# Altium schematic symbol library Power.SchLib: 8 symbols
Pins are listed as number, name and electrical type; pins without a type are passive.

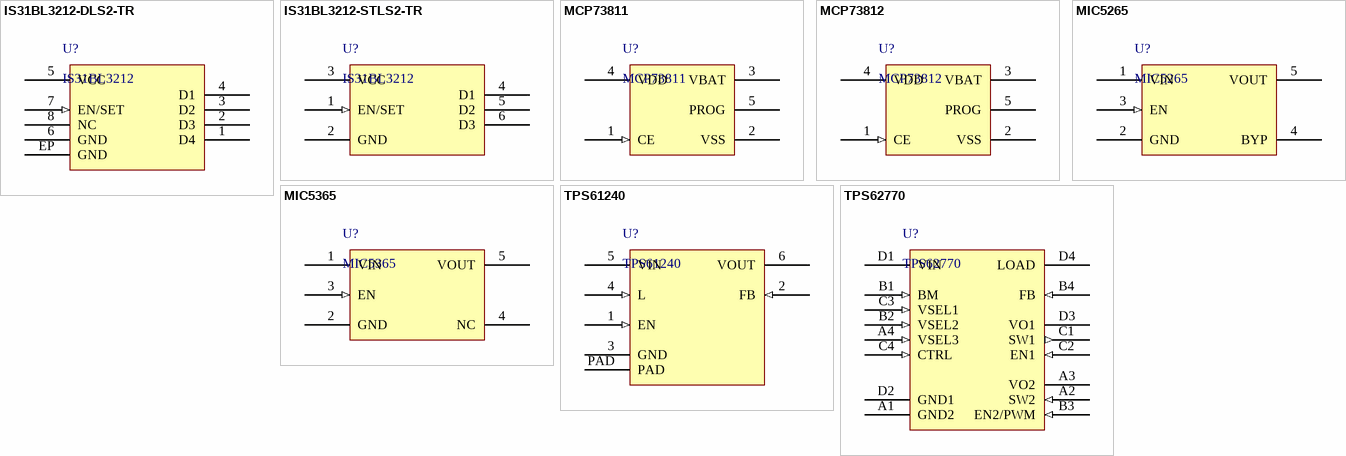
[diagram p0: symbols IS31BL3212-DLS2-TR to TPS62770]

## IS31BL3212-DLS2-TR
designator U?, comment IS31BL3212
4-Channel Constant Current LED Driver
footprint DFN-8-2x2
pins: 1 D4, 2 D3, 3 D2, 4 D1, 5 VCC (power), 6 GND (power), 7 EN/SET (in), 8 NC, EP GND (power)

## IS31BL3212-STLS2-TR
designator U?, comment IS31BL3212
4-Channel Constant Current LED Driver
footprint SOT95P280X125-6N (SOT23, 6-Leads, Body 2.92x2.80mm, Pitch 0.95mm, IPC Medium Density)
pins: 1 EN/SET (in), 2 GND (power), 3 VCC (power), 4 D1, 5 D2, 6 D3

## MCP73811
designator U?
Simple, Miniature Single-Cell, Fully Integrated Li-Ion / Li-Polymer Charge Management Controllers / Constant Current
footprint SOT95P280X145-5N (SOT23, 5-Leads, Body 2.90x2.80mm, Pitch 0.95mm, IPC Medium Density)
pins: 1 CE (in), 2 VSS (power), 3 VBAT (power), 4 VDD (power), 5 PROG

## MCP73812
designator U?
Simple, Miniature Single-Cell, Fully Integrated Li-Ion / Li-Polymer Charge Management Controllers / Constant Current set by external resistor
footprint SOT95P280X145-5N (SOT23, 5-Leads, Body 2.90x2.80mm, Pitch 0.95mm, IPC Medium Density)
pins: 1 CE (in), 2 VSS (power), 3 VBAT (power), 4 VDD (power), 5 PROG

## MIC5265
designator U?
150mA µCap LDO Regulator
footprint SOT95P280X130-5N (SOT23, 5-Leads, Body 2.90x2.80mm, Pitch 0.95mm, IPC Medium Density)
pins: 1 VIN (power), 2 GND (power), 3 EN (in), 4 BYP, 5 VOUT (power)

## MIC5365
designator U?
footprint SOT65P210X100-5N (SOT23, 5-Leads, Body 2.03x2.10mm, Pitch 0.65mm, IPC Medium Density)
pins: 1 VIN (power), 2 GND (power), 3 EN (in), 4 NC, 5 VOUT (power)

## TPS61240
designator U?
3.5-MHz High Efficiency Step-Up Converter
footprint WSON-6-2x2
pins: 1 EN (in), 2 FB (in), 3 GND (power), 4 L (in), 5 VIN (power), 6 VOUT (power), PAD (power)

## TPS62770
designator U?
Multi-Rail DC/DC Converter For Wearable Applications
footprint BGA16C40P4X4_158X158X50 (YFP (S-XBGA-N16) BGA, 16-Leads, Body 1.58x1.58mmx0.50mm, Pitch 0.40mm)
pins: A1 GND2 (power), A2 SW2 (in), A3 VO2 (power), A4 VSEL3 (in), B1 BM (in), B2 VSEL2 (in), B3 EN2/PWM (in), B4 FB (in), C1 SW1 (out), C2 EN1 (in), C3 VSEL1 (in), C4 CTRL (in), D1 VIN (power), D2 GND1 (power), D3 VO1 (power), D4 LOAD (power)